# EAGLE library part MS5541-CM (library MyAmSys)
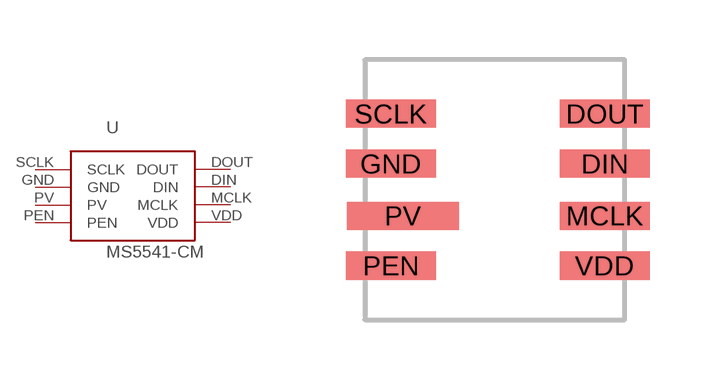
[diagram p3: symbol with the pads of MS5541-CM; footprint MS5541-CM]

Designator prefix -

## MS5541-CM  [MS5541-CM]
DIN  DIN
DOUT  DOUT
GND  GND
MCLK  MCLK
PEN  PEN
PV  PV
SCLK  SCLK
VDD  VDD

## Footprint MS5541-CM (pad centres in mm)
smd 2.25 x 0.7: DIN 5.35,0; DOUT 5.35,1.25; GND 0,0; MCLK 5.35,-1.3; PEN 0,-2.55; SCLK 0,1.25; VDD 5.35,-2.55
smd 2.8 x 0.7: PV 0.3,-1.3